# Altium footprint library 1985221.PcbLib: 1 footprints
Each footprint in its own frame and in the unit in brackets; x right, y up, seen from the top. Pads: shape width x height; smd on the part's side, far side on the other; paste and mask are expansions set on the pad; w line width, h text height; cw(c..) or ccw(c..) is an arc to the next point about the centre after c.
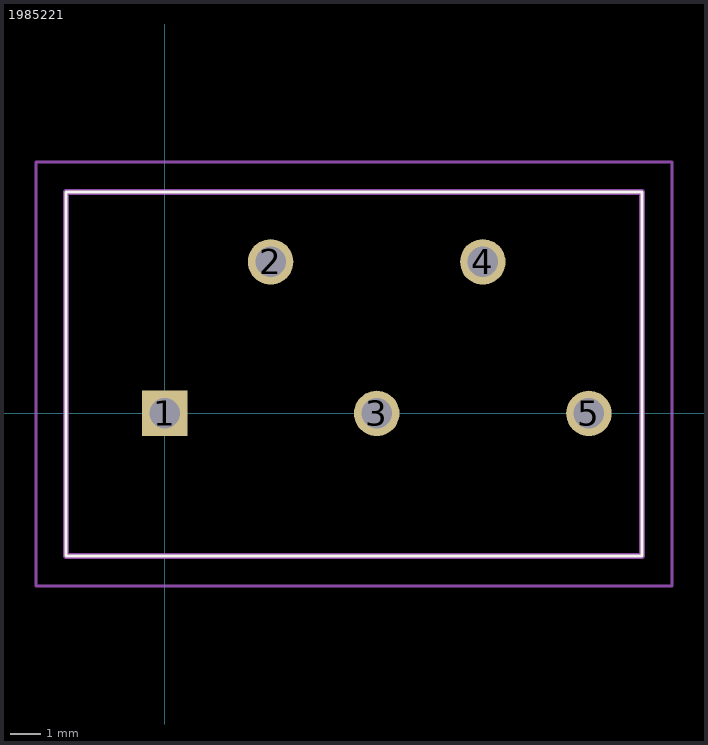
[diagram p0: the footprint, top view; thin cyan lines are the x and y axes]

## 1985221 [mm]
pads (5):
  rect 1.5x1.5 hole 1: 1(0,0)
  round 1.5 hole 1: 2(3.5,5) 3(7,0) 4(10.5,5) 5(14,0)
Top Overlay:
  lines w0.1: -3.25,-4.7 15.75,-4.7 15.75,7.3 -3.25,7.3 -3.25,-4.7
Mechanical 15:
  lines w0.2: -3.25,-4.7 15.75,-4.7 15.75,7.3 -3.25,7.3 -3.25,-4.7
Mechanical 20:
  lines w0.1: -4.25,-5.7 16.75,-5.7 16.75,8.3 -4.25,8.3 -4.25,-5.7